# EAGLE library part JW2SN-DC12V (library DigiKey)
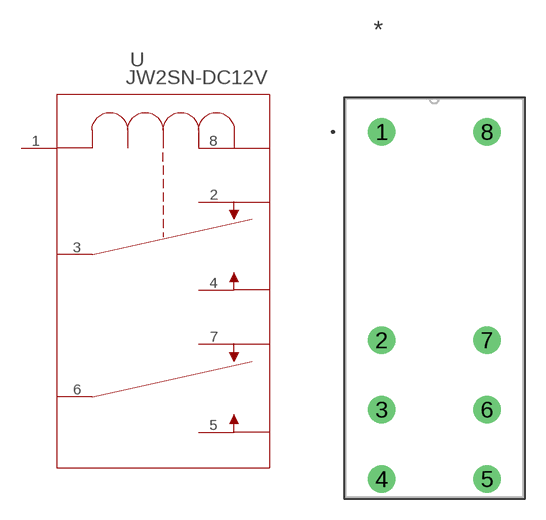
[diagram p0: symbol with the pads of RELAY_JW2; footprint RELAY_JW2]

Designator prefix U

## JW2SN-DC12V (MANUFACTURER_PART_NUMBER: JW2SNDC12V; VENDOR: Panasonic)  [RELAY_JW2]
1  1  pas
2  5  pas
3  3_2  pas
4  4  pas
5  3  pas
6  6  pas
7  8  pas
8  2  pas

## Footprint RELAY_JW2 (pad centres in mm)
drill 1.321 pad 1.829: 1 -7.595,23.978; 2 -7.595,8.966; 3 -7.595,3.962; 4 -7.595,-1.041; 5 0,-1.041; 6 0,3.962; 7 0,8.966; 8 0,23.978